# EAGLE library part FDC6330L (library FDC6330L)
FDC6330 Series 20 V 2.3 A High Side Integrated Load Switch - SSOT-6 Check prices <https://pricing.snapeda.com/parts/FDC6330L/ON%20Semiconductor/view-part?ref=eda>
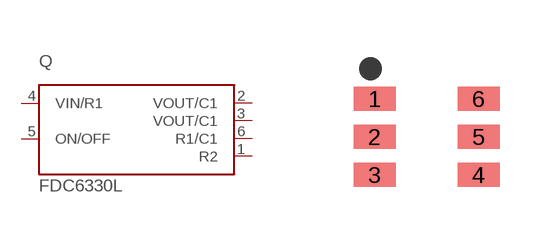
[diagram p0: symbol with the pads of SOT95P280X110-6N; footprint SOT95P280X110-6N]

Designator prefix Q

## FDC6330L (Availability: Good; Description: Power Switch/Driver 1:1 P-Channel 2.3A SuperSOT™-6; MF: ON Semiconductor; MP: FDC6330L; Package: TSOT-23-6 ON Semiconductor; Price: None; Purchase-URL: https://pricing.snapeda.com/search/part/FDC6330L/?ref=eda)  [SOT95P280X110-6N]
1  R2  pas
2  VOUT/C1  out
3  VOUT/C1  out
4  VIN/R1  in
5  ON/OFF  in
6  R1/C1  pas

## Footprint SOT95P280X110-6N (pad centres in mm)
smd 1.05 x 0.6: 1 -1.3,0.95; 2 -1.3,0; 3 -1.3,-0.95; 4 1.3,-0.95; 5 1.3,0; 6 1.3,0.95